# EAGLE library part XF2*-20? (library con-omron)
OMRON FPC Connector Source : http://www.omron.com/ecb/products/pdf/fpc.pdf
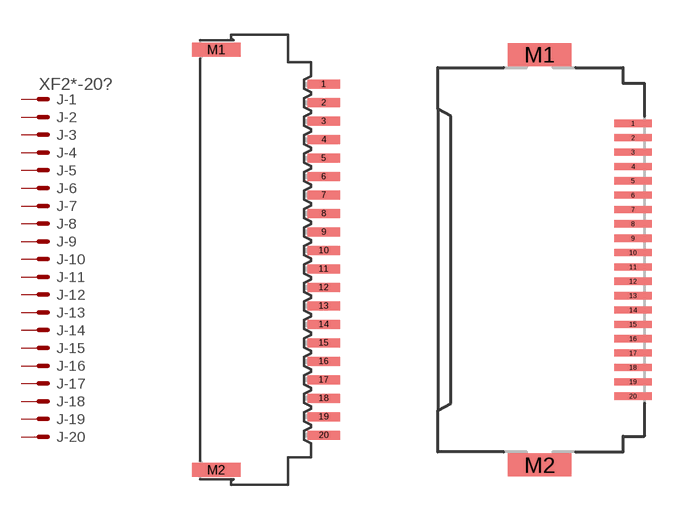
[diagram p13: symbol with the pads of XF2E-2015-1; footprints XF2E-2015-1, XF2H-2015-1LW]

Designator prefix J; gates -1=PV -2=P -3=P -4=P -5=P -6=P -7=P -8=P -9=P -10=P -11=P -12=P -13=P -14=P -15=P -16=P -17=P -18=P -19=P -20=P

## XF2E-2015-1 (MPN: XF2E-2015-1; OC_FARNELL: unknown; OC_NEWARK: 37M9453)  [XF2E-2015-1]
1  -1:MSV  pas
2  -2:MS  pas
3  -3:MS  pas
4  -4:MS  pas
5  -5:MS  pas
6  -6:MS  pas
7  -7:MS  pas
8  -8:MS  pas
9  -9:MS  pas
10  -10:MS  pas
11  -11:MS  pas
12  -12:MS  pas
13  -13:MS  pas
14  -14:MS  pas
15  -15:MS  pas
16  -16:MS  pas
17  -17:MS  pas
18  -18:MS  pas
19  -19:MS  pas
20  -20:MS  pas

## XF2H-2015-1LW (OC_FARNELL: unknown; OC_NEWARK: unknown)  [XF2H-2015-1LW]
Pads as for XF2E-2015-1

## XF2J-2024-11 (MF: OMRON COMPONENTS USA; MPN: XF2J-2024-11; OC_FARNELL: 1430937; OC_NEWARK: 29C7825)  [XF2J-2024-11]
Pads as for XF2E-2015-1

## XF2J-2024-12 (MPN: XF2J-2024-12A; OC_FARNELL: 1430941; OC_NEWARK: 59M3514)  [XF2J-2024-12]
Pads as for XF2E-2015-1

## XF2L-2035-1 (MPN: XF2L-2035-1; OC_FARNELL: unknown; OC_NEWARK: 37M0893)  [XF2L-2035-1]
Pads as for XF2E-2015-1

## Footprint XF2E-2015-1 (pad centres in mm)
Non-ZIF Type (0.8 mm-pitch) Source : http://www.omron.com/ecb/products/pdf/fpc.pdf
smd 1.4 x 0.4: 1 2.54,7.6; 2 2.54,6.8; 3 2.54,6; 4 2.54,5.2; 5 2.54,4.4; 6 2.54,3.6; 7 2.54,2.8; 8 2.54,2; 9 2.54,1.2; 10 2.54,0.4; 11 2.54,-0.4; 12 2.54,-1.2; 13 2.54,-2; 14 2.54,-2.8; 15 2.54,-3.6; 16 2.54,-4.4; 17 2.54,-5.2; 18 2.54,-6; 19 2.54,-6.8; 20 2.54,-7.6
smd 2.1 x 0.6: M1 -2.11,9.1; M2 -2.11,-9.1

## Footprint XF2H-2015-1LW (pad centres in mm)
Standard Rotary Backlock Type (0.5 mm-pitch) Source : http://www.omron.com/ecb/products/pdf/fpc.pdf
smd 1.3 x 0.25: 1 3.175,4.75; 2 3.175,4.25; 3 3.175,3.75; 4 3.175,3.25; 5 3.175,2.75; 6 3.175,2.25; 7 3.175,1.75; 8 3.175,1.25; 9 3.175,0.75; 10 3.175,0.25; 11 3.175,-0.25; 12 3.175,-0.75; 13 3.175,-1.25; 14 3.175,-1.75; 15 3.175,-2.25; 16 3.175,-2.75; 17 3.175,-3.25; 18 3.175,-3.75; 19 3.175,-4.25; 20 3.175,-4.75
smd 2.2 x 0.8: M1 -0.075,7.15; M2 -0.075,-7.15

## Footprint XF2J-2024-11 (pad centres in mm)
ZIF Slide-locking Type (0.5 mm-pitch) Standard Source : http://www.omron.com/ecb/products/pdf/fpc.pdf
smd 1.6 x 0.5: 1 1.2,4.75; 2 -1.2,4.25; 3 1.2,3.75; 4 -1.2,3.25; 5 1.2,2.75; 6 -1.2,2.25; 7 1.2,1.75; 8 -1.2,1.25; 9 1.2,0.75; 10 -1.2,0.25; 11 1.2,-0.25; 12 -1.2,-0.75; 13 1.2,-1.25; 14 -1.2,-1.75; 15 1.2,-2.25; 16 -1.2,-2.75; 17 1.2,-3.25; 18 -1.2,-3.75; 19 1.2,-4.25; 20 -1.2,-4.75
smd 2.9 x 1.4: M1 0,6.45; M2 0,-6.45

## Footprint XF2J-2024-12 (pad centres in mm)
ZIF Slide-locking Type (0.5 mm-pitch) Reverse Source : http://www.omron.com/ecb/products/pdf/fpc.pdf
smd 1.6 x 0.5: 1 -1.2,4.75; 2 1.2,4.25; 3 -1.2,3.75; 4 1.2,3.25; 5 -1.2,2.75; 6 1.2,2.25; 7 -1.2,1.75; 8 1.2,1.25; 9 -1.2,0.75; 10 1.2,0.25; 11 -1.2,-0.25; 12 1.2,-0.75; 13 -1.2,-1.25; 14 1.2,-1.75; 15 -1.2,-2.25; 16 1.2,-2.75; 17 -1.2,-3.25; 18 1.2,-3.75; 19 -1.2,-4.25; 20 1.2,-4.75
smd 2.9 x 1.4: M1 0,6.45; M2 0,-6.45

## Footprint XF2L-2035-1 (pad centres in mm)
ZIF Slide-locking Type (0.5 mm-pitch) Lower-contact Type Source : http://www.omron.com/ecb/products/pdf/fpc.pdf
smd 1 x 0.25: 1 1.905,4.75; 2 1.905,4.25; 3 1.905,3.75; 4 1.905,3.25; 5 1.905,2.75; 6 1.905,2.25; 7 1.905,1.75; 8 1.905,1.25; 9 1.905,0.75; 10 1.905,0.25; 11 1.905,-0.25; 12 1.905,-0.75; 13 1.905,-1.25; 14 1.905,-1.75; 15 1.905,-2.25; 16 1.905,-2.75; 17 1.905,-3.25; 18 1.905,-3.75; 19 1.905,-4.25; 20 1.905,-4.75
smd 1.34 x 1: M1 0.18,7.138; M2 0.18,-7.138